# EAGLE library part MCP25625 (library MotoRecoPico)
Microchip MCP25625 CAN 2.0B controller with integrated transceiver, SSOP-28. VDDA must be 5V. VDD and VIO tie to 3.3V for direct connection to a 3.3V MCU with no level shifters. TXD must be wired to TXCAN and RXD to RXCAN on the PCB.
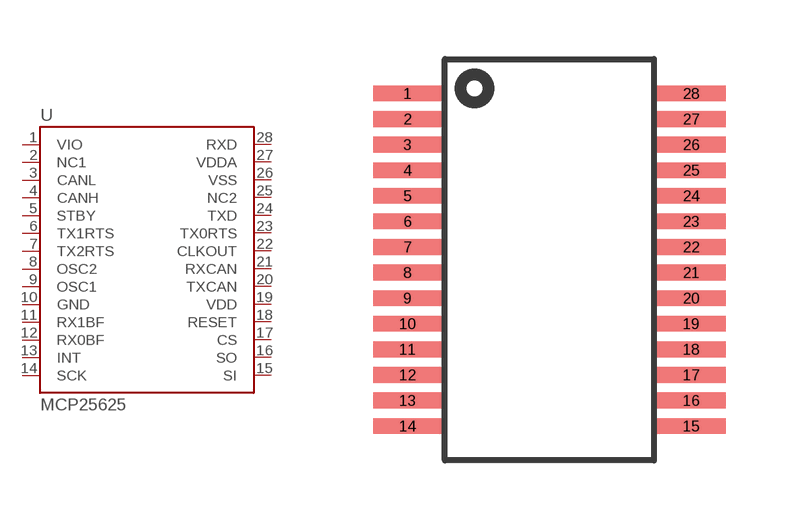
[diagram p1: symbol with the pads of SSOP28; footprint SSOP28]

Designator prefix U

## MCP25625T-E/SS  [SSOP28]
1  VIO  pwr
2  NC1  nc
3  CANL
4  CANH
5  STBY  in
6  TX1RTS  in
7  TX2RTS  in
8  OSC2  out
9  OSC1  in
10  GND  pwr
11  RX1BF  out
12  RX0BF  out
13  INT  out
14  SCK  in
15  SI  in
16  SO  out
17  CS  in
18  RESET  in
19  VDD  pwr
20  TXCAN  out
21  RXCAN  in
22  CLKOUT  out
23  TX0RTS  in
24  TXD  in
25  NC2  nc
26  VSS  pwr
27  VDDA  pwr
28  RXD  out

## Footprint SSOP28 (pad centres in mm)
28-lead SSOP, 5.30mm body, 0.65mm pitch (Microchip package code SS). Land pattern per Microchip C04-073: contact pad spacing C=7.20mm, pad width X=0.40mm, pad length Y=1.75mm. Hand-solderable with care.
smd 1.75 x 0.4: 1 -3.6,4.225; 2 -3.6,3.575; 3 -3.6,2.925; 4 -3.6,2.275; 5 -3.6,1.625; 6 -3.6,0.975; 7 -3.6,0.325; 8 -3.6,-0.325; 9 -3.6,-0.975; 10 -3.6,-1.625; 11 -3.6,-2.275; 12 -3.6,-2.925; 13 -3.6,-3.575; 14 -3.6,-4.225; 15 3.6,-4.225; 16 3.6,-3.575; 17 3.6,-2.925; 18 3.6,-2.275; 19 3.6,-1.625; 20 3.6,-0.975; 21 3.6,-0.325; 22 3.6,0.325; 23 3.6,0.975; 24 3.6,1.625; 25 3.6,2.275; 26 3.6,2.925; 27 3.6,3.575; 28 3.6,4.225